# EAGLE library part PIC24FJ32GB002-I/ML (library RPLidar_interface)
IC MCU 16BIT 32KB FLASH,QFN-28
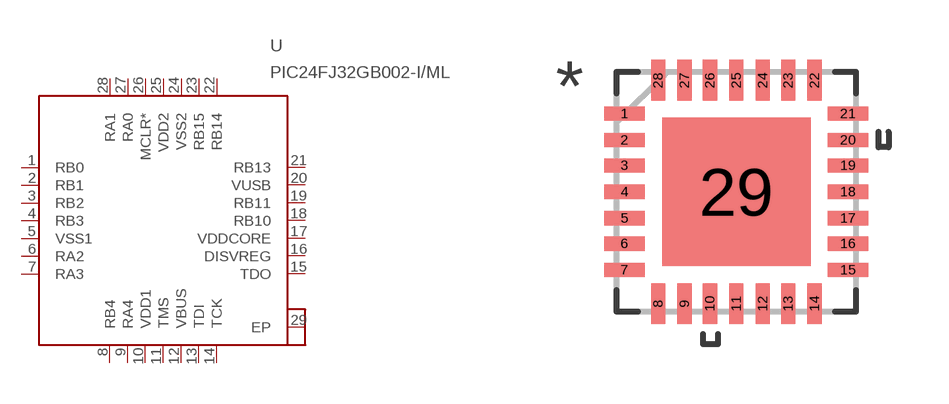
[diagram p0: symbol with the pads of QFN65P600X600X100-29N; footprint QFN65P600X600X100-29N]

Designator prefix U

## PIC24FJ32GB002-I/ML (MPN: PIC24FJ32GB002-I/ML; OC_FARNELL: Unknown; OC_NEWARK: 07P9727; PACKAGE: QFN-28; SUPPLIER: Microchip)  [QFN65P600X600X100-29N]
1  RB0
2  RB1
3  RB2
4  RB3
5  VSS1  pwr
6  RA2
7  RA3
8  RB4
9  RA4
10  VDD1  pwr
11  TMS  in
12  VBUS  pas
13  TDI  in
14  TCK  in
15  TDO  out
16  DISVREG  pas
17  VDDCORE  pwr
18  RB10  pas
19  RB11  pas
20  VUSB  pas
21  RB13
22  RB14
23  RB15
24  VSS2  pwr
25  VDD2  pwr
26  MCLR*
27  RA0
28  RA1
29  EP  pwr

## Footprint QFN65P600X600X100-29N (pad centres in mm)
smd 1.016 x 0.356: 1 -2.794,1.956; 2 -2.794,1.295; 3 -2.794,0.66; 4 -2.794,0; 5 -2.794,-0.66; 6 -2.794,-1.295; 7 -2.794,-1.956; 15 2.794,-1.956; 16 2.794,-1.295; 17 2.794,-0.66; 18 2.794,0; 19 2.794,0.66; 20 2.794,1.295; 21 2.794,1.956
smd 0.356 x 1.016: 8 -1.956,-2.794; 9 -1.295,-2.794; 10 -0.66,-2.794; 11 0,-2.794; 12 0.66,-2.794; 13 1.295,-2.794; 14 1.956,-2.794; 22 1.956,2.794; 23 1.295,2.794; 24 0.66,2.794; 25 0,2.794; 26 -0.66,2.794; 27 -1.295,2.794; 28 -1.956,2.794
smd 3.708 x 3.708: 29 0,0